# EAGLE library part KSX8081MNX (library micrel)
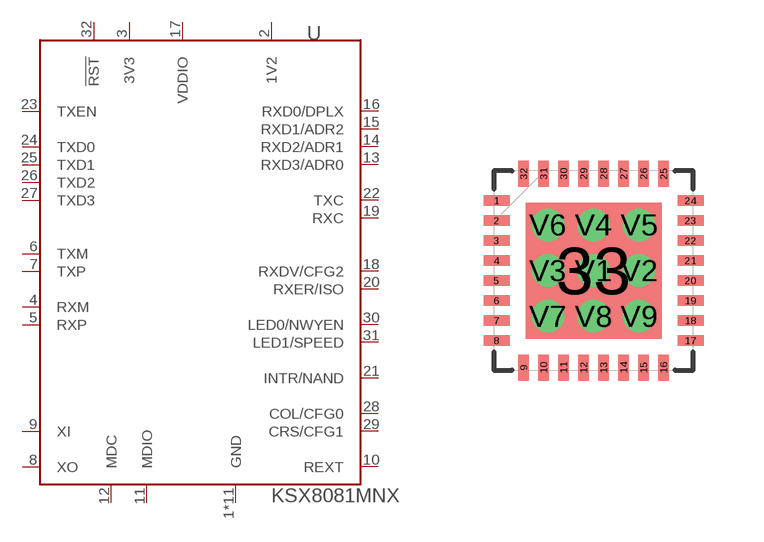
[diagram p0: symbol with the pads of QFN55-32LD-LP-1; footprint QFN55-32LD-LP-1]

Designator prefix -

## KSX8081MNX (DIGIKEY: 576-4171-1-ND)  [QFN55-32LD-LP-1]
1  GND
2  1V2
3  3V3
4  RXM
5  RXP
6  TXM
7  TXP
8  XO
9  XI
10  REXT
11  MDIO
12  MDC
13  RXD3/ADR0
14  RXD2/ADR1
15  RXD1/ADR2
16  RXD0/DPLX
17  VDDIO
18  RXDV/CFG2
19  RXC
20  RXER/ISO
21  INTR/NAND
22  TXC
23  TXEN
24  TXD0
25  TXD1
26  TXD2
27  TXD3
28  COL/CFG0
29  CRS/CFG1
30  LED0/NWYEN
31  LED1/SPEED
32  !RST
33  GND
V1  GND
V2  GND
V3  GND
V4  GND
V5  GND
V6  GND
V7  GND
V8  GND
V9  GND

## Footprint QFN55-32LD-LP-1 (pad centres in mm)
smd 0.65 x 0.27: 1 -2.425,1.75; 2 -2.425,1.25; 3 -2.425,0.75; 4 -2.425,0.25; 5 -2.425,-0.25; 6 -2.425,-0.75; 7 -2.425,-1.25; 8 -2.425,-1.75; 17 2.425,-1.75; 18 2.425,-1.25; 19 2.425,-0.75; 20 2.425,-0.25; 21 2.425,0.25; 22 2.425,0.75; 23 2.425,1.25; 24 2.425,1.75
smd 0.27 x 0.65: 9 -1.75,-2.425; 10 -1.25,-2.425; 11 -0.75,-2.425; 12 -0.25,-2.425; 13 0.25,-2.425; 14 0.75,-2.425; 15 1.25,-2.425; 16 1.75,-2.425; 25 1.75,2.425; 26 1.25,2.425; 27 0.75,2.425; 28 0.25,2.425; 29 -0.25,2.425; 30 -0.75,2.425; 31 -1.25,2.425; 32 -1.75,2.425
smd 3.4 x 3.4: 33 0,0
drill 0.305: V1 0,0; V2 1.143,0; V3 -1.143,0; V4 0,1.143; V5 1.143,1.143; V6 -1.143,1.143; V7 -1.143,-1.143; V8 0,-1.143; V9 1.143,-1.143